# EAGLE library part 1.8_TFT_DISPLAY (library 1.8TFT_ILI9163)
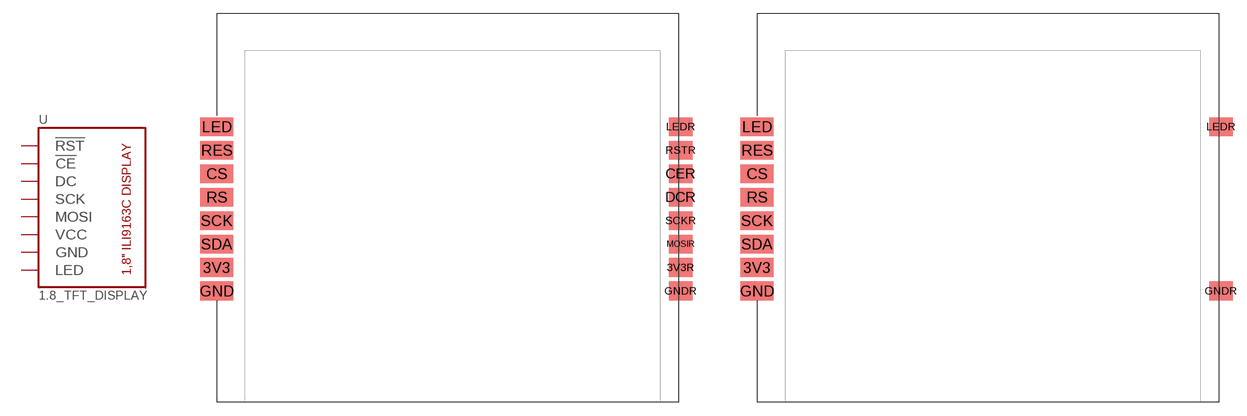
[diagram p0: symbol with the pads of 1.8TFT_SMD_DOUBLE; footprints 1.8TFT_SMD_DOUBLE, 1.8TFT_SMD_HOLDER]

Designator prefix U

## 1.8_TFT_DISPLAYSMD_DUAL  [1.8TFT_SMD_DOUBLE]
3V3  VCC
3V3R  VCC
CER  !CE
CS  !CE
DCR  DC
GND  GND
GNDR  GND
LED  LED
LEDR  LED
MOSIR  MOSI
RES  !RST
RS  DC
RSTR  !RST
SCK  SCK
SCKR  SCK
SDA  MOSI

## 1.8_TFT_DISPLAYSMD_HOLDER  [1.8TFT_SMD_HOLDER]
3V3  VCC
CS  !CE
GND  GND
GNDR  GND
LED  LED
LEDR  LED
RES  !RST
RS  DC
SCK  SCK
SDA  MOSI

## 1.8_TFT_DISPLAYSMD_SINGLE  [1.8TFT_SMD_SINGLE]
3V3  VCC
CS  !CE
GND  GND
LED  LED
RES  !RST
RS  DC
SCK  SCK
SDA  MOSI

## 1.8_TFT_DISPLAYTHT  [1.8TFT_THT]
Pads as for 1.8TFT_SMD_SINGLE

## Footprint 1.8TFT_SMD_DOUBLE (pad centres in mm)
smd 3.556 x 2.032: 3V3 0,2.54; CS 0,12.7; GND 0,0; LED 0,17.78; RES 0,15.24; RS 0,10.16; SCK 0,7.62; SDA 0,5.08
smd 2.54 x 2.032: 3V3R 50.165,2.54; CER 50.165,12.7; DCR 50.165,10.16; GNDR 50.165,0; LEDR 50.165,17.78; MOSIR 50.165,5.08; RSTR 50.165,15.24; SCKR 50.165,7.62

## Footprint 1.8TFT_SMD_HOLDER (pad centres in mm)
smd 3.556 x 2.032: 3V3 0,2.54; CS 0,12.7; GND 0,0; LED 0,17.78; RES 0,15.24; RS 0,10.16; SCK 0,7.62; SDA 0,5.08
smd 2.54 x 2.032: GNDR 50.165,0; LEDR 50.165,17.78

## Footprint 1.8TFT_SMD_SINGLE (pad centres in mm)
smd 3.556 x 2.032: 3V3 0,2.54; CS 0,12.7; GND 0,0; LED 0,17.78; RES 0,15.24; RS 0,10.16; SCK 0,7.62; SDA 0,5.08

## Footprint 1.8TFT_THT (pad centres in mm)
drill 1 pad 1.778: 3V3 0,2.54; CS 0,12.7; GND 0,0; LED 0,17.78; RES 0,15.24; RS 0,10.16; SCK 0,7.62; SDA 0,5.08